# Altium footprint library SOIC-6 (8-mm Clearance).PcbLib: 1 footprints
Each footprint in its own frame and in the unit in brackets; x right, y up, seen from the top. Pads: shape width x height; smd on the part's side, far side on the other; paste and mask are expansions set on the pad; w line width, h text height; cw(c..) or ccw(c..) is an arc to the next point about the centre after c.
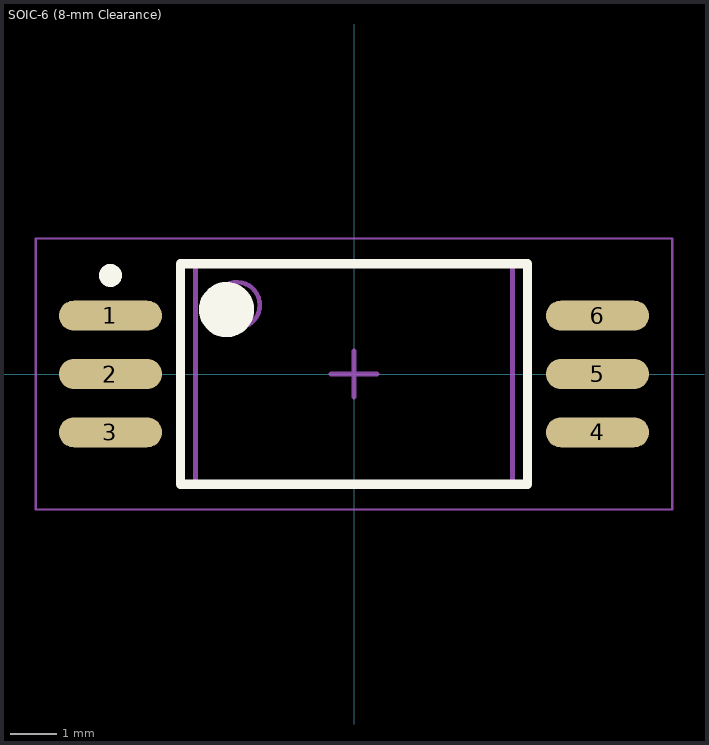
[diagram p0: the footprint, top view; thin cyan lines are the x and y axes]

## SOIC-6 (8-mm Clearance) [mm]
height 3.25
pads (6):
  oval 2.25x0.65 smd: 1(-5.3,1.27) 2(-5.3,0) 3(-5.3,-1.27) 4(5.3,-1.27) 5(5.3,0) 6(5.3,1.27)
Top Overlay:
  circle w0.25: c-5.3,2.145 r0.125
  circle w0.6: c-2.775,1.4 r0.3
  lines w0.2: -3.775,-2.4 -3.775,2.4 3.775,2.4 3.775,-2.4 -3.775,-2.4
Mechanical 13:
  circle w0.1: c-2.55,1.5 r0.5
  lines w0.1: -3.45,-2.4 -3.45,2.4 3.45,2.4 3.45,-2.4 -3.45,-2.4
Mechanical 15:
  lines w0.05: -6.925,-2.95 -6.925,2.95 6.925,2.95 6.925,-2.95 -6.925,-2.95
  lines w0.1: -0.5,0 0.5,0 ; 0,-0.5 0,0.5
3D body "SOIC-6 (8-mm Clearance).step": height 3.25, standoff 0, extent -5.75,-2.4 5.75,2.4